# EAGLE library part 5569-08 (library con-molex-5569)
4.20mm Pitch Mini-Fit Jr.™ - 8 pin Source: http://www.molex.com/molex/products/family?key=minifit_jr&channel=PRODUCTS&chanName=family&pageTitle=Introduction
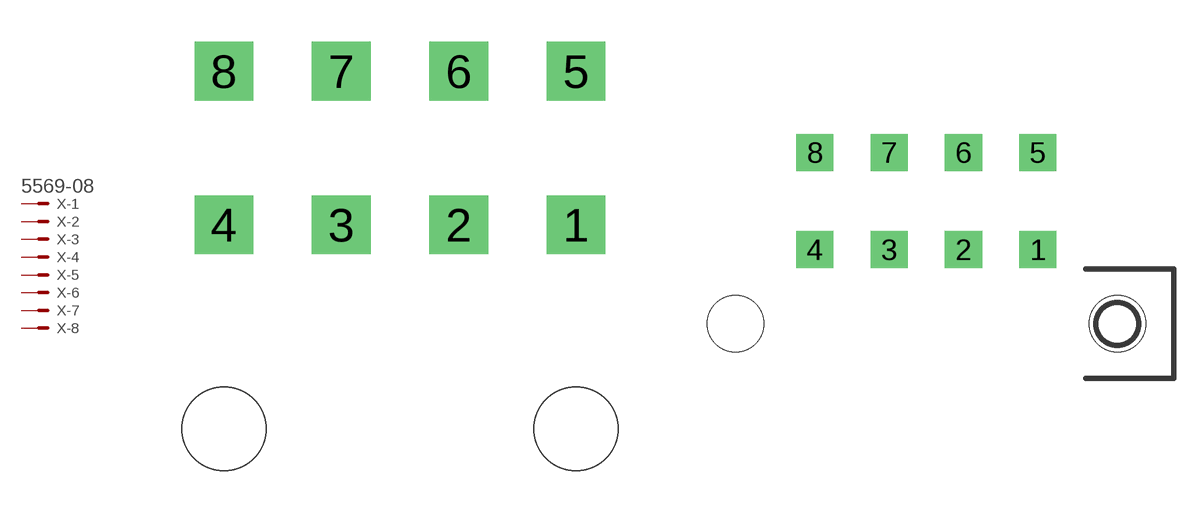
[diagram p1: symbol with the pads of 5569-08; footprints 5569-08, 5569-08A]

Designator prefix X; gates -1=MV -2=M -3=M -4=M -5=M -6=M -7=M -8=M

## 5569-08  [5569-08]
1  -1:>NAME$
2  -2:>NAME$
3  -3:>NAME$
4  -4:>NAME$
5  -5:>NAME$
6  -6:>NAME$
7  -7:>NAME$
8  -8:>NAME$

## 5569-08A  [5569-08A]
Pads as for 5569-08

## Footprint 5569-08 (pad centres in mm)
5569-08 - 8 pin 4.20mm Pitch Mini-Fit Jr.™ Header, Dual Row, Right Angle, with Snap-in Plastic Peg PCB Lock. Source: http://www.molex.com/pdm_docs/sd/039307025_sd.pdf
drill 1.4 square: 1 6.3,-2.75; 2 2.1,-2.75; 3 -2.1,-2.75; 4 -6.3,-2.75; 5 6.3,2.75; 6 2.1,2.75; 7 -2.1,2.75; 8 -6.3,2.75
hole 3 at 6.3,-10.05
hole 3 at -6.3,-10.05

## Footprint 5569-08A (pad centres in mm)
5569-08A - 8 pin 4.20mm Pitch Mini-Fit Jr.™ Header, Dual Row, Right Angle, with PCB Mounting Flange. Source: http://www.molex.com/pdm_docs/sd/039291048_sd.pdf
drill 1.4 square: 1 6.3,-2.75; 2 2.1,-2.75; 3 -2.1,-2.75; 4 -6.3,-2.75; 5 6.3,2.75; 6 2.1,2.75; 7 -2.1,2.75; 8 -6.3,2.75
hole 3.2 at 10.8,-6.95
hole 3.2 at -10.8,-6.95